# Altium footprint library PcbLib1.PcbLib: 18 footprints (part 2 of 2)
Each footprint in its own frame and in the unit in brackets; x right, y up, seen from the top. Pads: shape width x height; smd on the part's side, far side on the other; paste and mask are expansions set on the pad; w line width, h text height; cw(c..) or ccw(c..) is an arc to the next point about the centre after c.
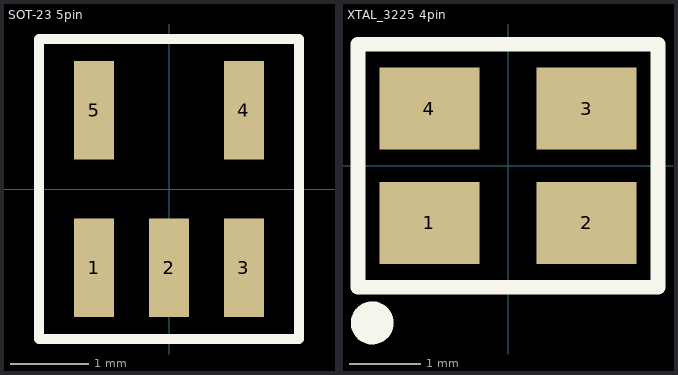
[diagram p1: the footprints below, top view; thin cyan lines are the x and y axes]

## SOT-23 5pin [mm]
pads (5):
  rect 0.508x1.25 smd: 1(-0.95,-1) 2(0,-1) 3(0.95,-1) 4(0.95,1) 5(-0.95,1)
Top Overlay:
  lines w0.127: -1.651,-1.905 1.651,-1.905 1.651,1.905 -1.651,1.905 -1.651,-1.905
3D body "SOT-23-5.STEP": height -0.4, standoff -1.6, extent -1.45,-1.4 1.45,1.4

## XTAL_3225 4pin [mm]
pads (4):
  rect 1.4x1.15 smd: 1(-1.1,-0.8) 2(1.1,-0.8) 3(1.1,0.8) 4(-1.1,0.8)
Top Overlay:
  circle w0.3: c-1.9,-2.2 r0.15
  lines w0.203: -2.1,-1.7 -2.1,1.7 2.1,1.7 2.1,-1.7 -2.1,-1.7
3D body "User Library-3225-1.STEP": height 0.61, standoff 0, extent -1.6,-1.25 1.6,1.25